# EAGLE library part ?M06B-SRSS-TB (library con-jst)
Disconnectable Crimp style connector, 1.0mm pitch 6 contacts
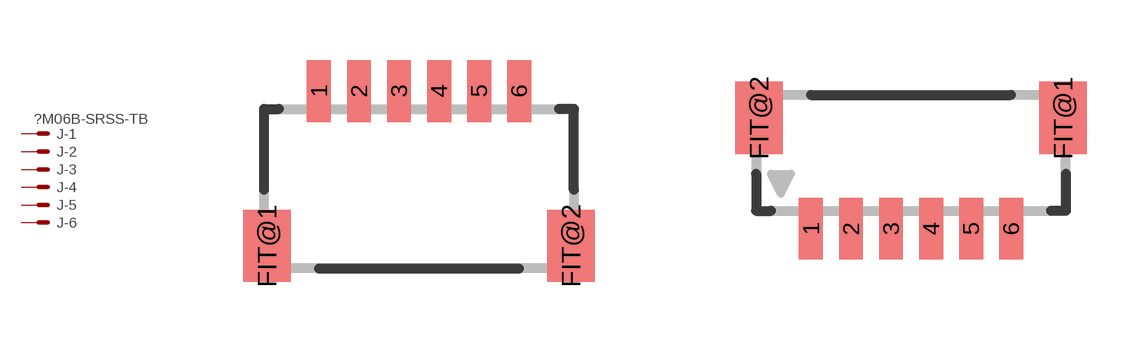
[diagram p22: symbol with the pads of SM06B-SRSS-TB; footprints SM06B-SRSS-TB, BM06B-SRSS-TB]

Designator prefix J; gates -1=KV -2=K -3=K -4=K -5=K -6=K

## SM06B-SRSS-TB  [SM06B-SRSS-TB]
1  -1:S  pas
2  -2:S  pas
3  -3:S  pas
4  -4:S  pas
5  -5:S  pas
6  -6:S  pas

## BM06B-SRSS-TB  [BM06B-SRSS-TB]
Pads as for SM06B-SRSS-TB

## Footprint SM06B-SRSS-TB (pad centres in mm)
Shrouded Header, side entry type
smd 0.6 x 1.55: 1 -2.5,2.975; 2 -1.5,2.975; 3 -0.5,2.975; 4 0.5,2.975; 5 1.5,2.975; 6 2.5,2.975
smd 1.2 x 1.8: FIT@1 -3.8,-0.9; FIT@2 3.8,-0.9

## Footprint BM06B-SRSS-TB (pad centres in mm)
Shrouded Header, top entry type
smd 0.6 x 1.55: 1 -2.5,-1.875; 2 -1.5,-1.875; 3 -0.5,-1.875; 4 0.5,-1.875; 5 1.5,-1.875; 6 2.5,-1.875
smd 1.2 x 1.8: FIT@1 3.8,0.9; FIT@2 -3.8,0.9